# EAGLE library part MC33063AD (library debauer_reg)
REGULATORS
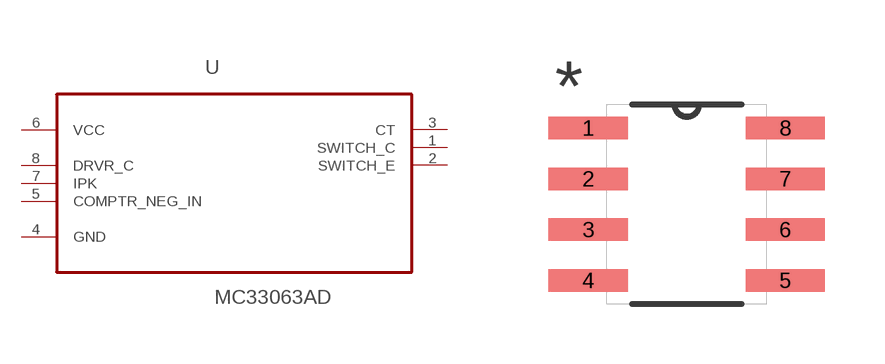
[diagram p0: symbol with the pads of SOIC127P600X175-8N; footprint SOIC127P600X175-8N]

Designator prefix U

## MC33063AD (MPN: MC33063AD; OC_FARNELL: 1053591; OC_NEWARK: 05M4209; PACKAGE: SOIC-8; SUPPLIER: TI)  [SOIC127P600X175-8N]
1  SWITCH_C  out
2  SWITCH_E  out
3  CT  out
4  GND  pas
5  COMPTR_NEG_IN  pas
6  VCC  pwr
7  IPK  pas
8  DRVR_C  pas

## Footprint SOIC127P600X175-8N (pad centres in mm)
smd 1.981 x 0.559: 1 -2.464,1.905; 2 -2.464,0.635; 3 -2.464,-0.635; 4 -2.464,-1.905; 5 2.464,-1.905; 6 2.464,-0.635; 7 2.464,0.635; 8 2.464,1.905